# EAGLE library part BTM-222_ALL (library BTM_222)
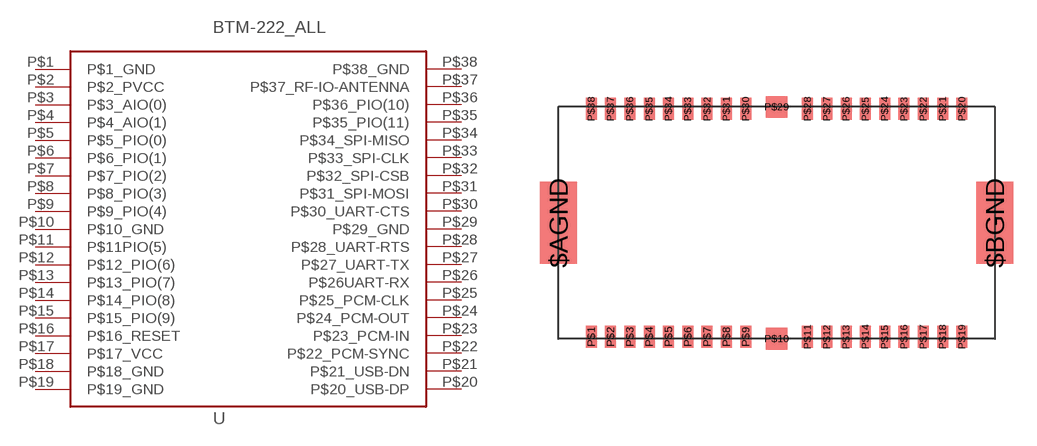
[diagram p0: symbol with the pads of BTM-222; footprint BTM-222]

Designator prefix -

## BTM-222_ALL  [BTM-222]
P$1  P$1_GND  pwr
P$2  P$2_PVCC  pwr
P$3  P$3_AIO(0)
P$4  P$4_AIO(1)
P$5  P$5_PIO(0)
P$6  P$6_PIO(1)
P$7  P$7_PIO(2)
P$8  P$8_PIO(3)
P$9  P$9_PIO(4)
P$10  P$10_GND  pwr
P$11  P$11PIO(5)
P$12  P$12_PIO(6)
P$13  P$13_PIO(7)
P$14  P$14_PIO(8)
P$15  P$15_PIO(9)
P$16  P$16_RESET  in
P$17  P$17_VCC  pwr
P$18  P$18_GND  pwr
P$19  P$19_GND  pwr
P$20  P$20_USB-DP
P$21  P$21_USB-DN
P$22  P$22_PCM-SYNC
P$23  P$23_PCM-IN  in
P$24  P$24_PCM-OUT  out
P$25  P$25_PCM-CLK
P$26  P$26UART-RX  in
P$27  P$27_UART-TX  out
P$28  P$28_UART-RTS  out
P$29  P$29_GND  pwr
P$30  P$30_UART-CTS  in
P$31  P$31_SPI-MOSI  in
P$32  P$32_SPI-CSB  in
P$33  P$33_SPI-CLK  in
P$34  P$34_SPI-MISO  out
P$35  P$35_PIO(11)
P$36  P$36_PIO(10)
P$37  P$37_RF-IO-ANTENNA
P$38  P$38_GND  pwr

## Footprint BTM-222 (pad centres in mm)
smd 2.4 x 5.3: $AGND -14.625,3.75; $BGND 13.625,3.75
smd 0.711 x 1.422: P$1 -12.5,-3.625; P$2 -11.25,-3.625; P$3 -10,-3.625; P$4 -8.75,-3.625; P$5 -7.5,-3.625; P$6 -6.25,-3.625; P$7 -5,-3.625; P$8 -3.75,-3.625; P$9 -2.5,-3.625; P$11 1.5,-3.625; P$12 2.75,-3.625; P$13 4,-3.625; P$14 5.25,-3.625; P$15 6.5,-3.625; P$16 7.75,-3.625; P$17 9,-3.625; P$18 10.25,-3.625; P$19 11.5,-3.625; P$20 11.5,11.125; P$21 10.25,11.125; P$22 9,11.125; P$23 7.75,11.125; P$24 6.5,11.125; P$25 5.25,11.125; P$26 4,11.125; P$27 2.75,11.125; P$28 1.5,11.125; P$30 -2.5,11.125; P$31 -3.75,11.125; P$32 -5,11.125; P$33 -6.25,11.125; P$34 -7.5,11.125; P$35 -8.75,11.125; P$36 -10,11.125; P$37 -11.25,11.125; P$38 -12.5,11.125
smd 1.422 x 1.4: P$10 -0.5,-3.75; P$29 -0.5,11.25